# Altium footprint library VOLTAGE_REG(1.8-5.5V, BUCK_BST, 3.3V, 900mA, 10SON).PcbLib: 1 footprints
Each footprint in its own frame and in the unit in brackets; x right, y up, seen from the top. Pads: shape width x height; smd on the part's side, far side on the other; paste and mask are expansions set on the pad; w line width, h text height; cw(c..) or ccw(c..) is an arc to the next point about the centre after c.
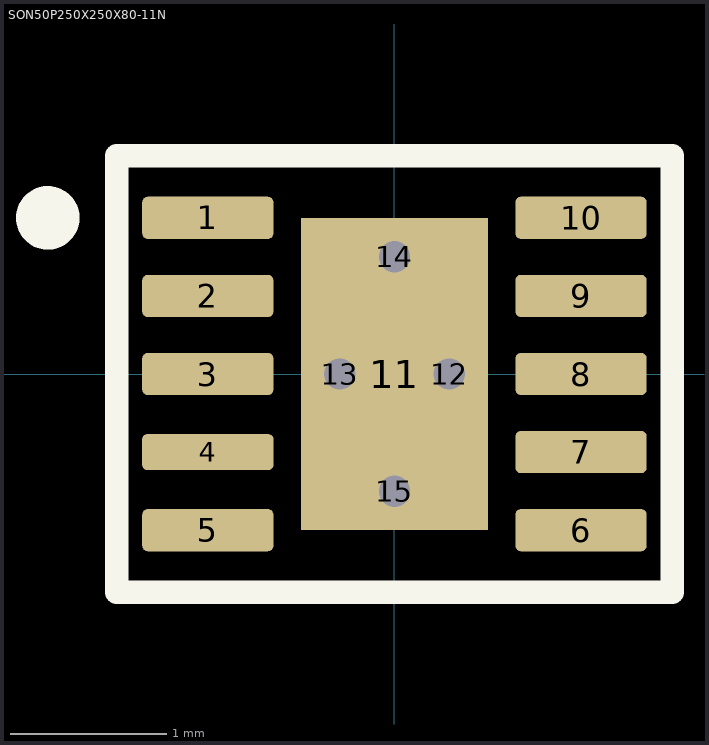
[diagram p0: the footprint, top view; thin cyan lines are the x and y axes]

## SON50P250X250X80-11N [mm]
height 0.8
pads (15):
  rrect25% 0.84x0.27 smd mask+0.051: 1(-1.195,1) 2(-1.195,0.5) 3(-1.195,0) 5(-1.195,-1) 6(1.195,-1) 7(1.195,-0.5) 8(1.195,0) 9(1.195,0.5) 10(1.195,1)
  rrect25% 0.84x0.229 smd mask+0.051: 4(-1.195,-0.5)
  rect 1.2x2 smd paste-2 mask+0.051: 11(0,0)
  round 0.3 hole 0.2 mask+0: 12(0.35,0) 13(-0.35,0) 14(0,0.75) 15(0,-0.75)
Top Overlay:
  circle w0.254: c-2.22,1 r0.076
  lines w0.152: -1.778,-1.397 1.778,-1.397 1.778,1.397 -1.778,1.397 -1.778,-1.397
Top Paste:
  region: 0.379,-0.633 -0.379,-0.633 -0.379,0.633 0.379,0.633
3D body "step_temp.STEP": height 0.8, standoff 0, extent -1.25,-1.25 1.25,1.25